# EAGLE library part IRS2301S (library LARS_409_MC)
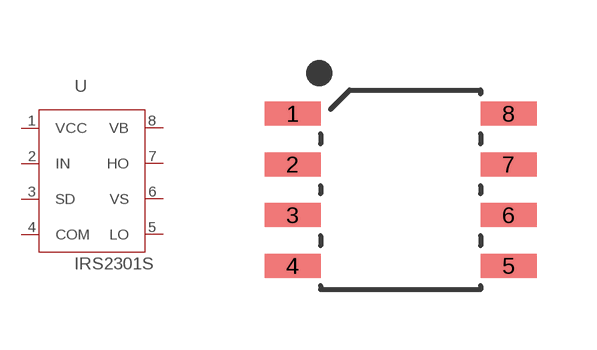
[diagram p33: symbol with the pads of IRS2301S; footprint IRS2301S]

Designator prefix U

## IRS2301S  [IRS2301S]
1  VCC
2  IN
3  SD
4  COM
5  LO
6  VS
7  HO
8  VB

## Footprint IRS2301S (pad centres in mm)
smd 1.4 x 0.6: 1 -2.7,1.905; 2 -2.7,0.635; 3 -2.7,-0.635; 4 -2.7,-1.905; 5 2.7,-1.905; 6 2.7,-0.635; 7 2.7,0.635; 8 2.7,1.905